# Altium schematic symbol library USB.SchLib: 2 symbols
Pins are listed as number, name and electrical type; pins without a type are passive.

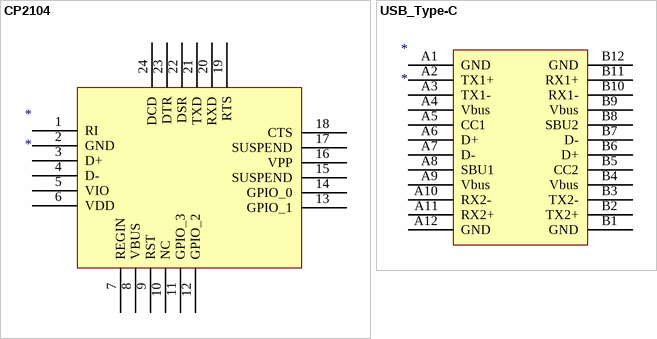
[diagram p0: symbols CP2104 to USB_Type-C]

## CP2104
designator *
footprint CP2104
pins: 1 RI, 2 GND, 3 D+, 4 D-, 5 VIO, 6 VDD, 7 REGIN, 8 VBUS, 9 RST, 10 NC, 11 GPIO_3, 12 GPIO_2, 13 GPIO_1, 14 GPIO_0, 15 SUSPEND, 16 VPP, 17 SUSPEND, 18 CTS, 19 RTS, 20 RXD, 21 TXD, 22 DSR, 23 DTR, 24 DCD

## USB_Type-C
designator *
footprint Type_C-UJ31-CH-G2-SMT-TR(Primary); pin to pad 1>A1 2>A2 3>A3 4>A4 5>A5 6>A6 7>A7 8>A8 9>A9
pins: A1 GND, A2 TX1+, A3 TX1-, A4 Vbus, A5 CC1, A6 D+, A7 D-, A8 SBU1, A9 Vbus, A10 RX2-, A11 RX2+, A12 GND, B1 GND, B2 TX2+, B3 TX2-, B4 Vbus, B5 CC2, B6 D+, B7 D-, B8 SBU2, B9 Vbus, B10 RX1-, B11 RX1+, B12 GND